# Altium footprint library ArdUno_AADsm5-42b.PcbLib: 27 footprints (part 1 of 2)
Each footprint in its own frame and in the unit in brackets; x right, y up, seen from the top. Pads: shape width x height; smd on the part's side, far side on the other; paste and mask are expansions set on the pad; w line width, h text height; cw(c..) or ccw(c..) is an arc to the next point about the centre after c.
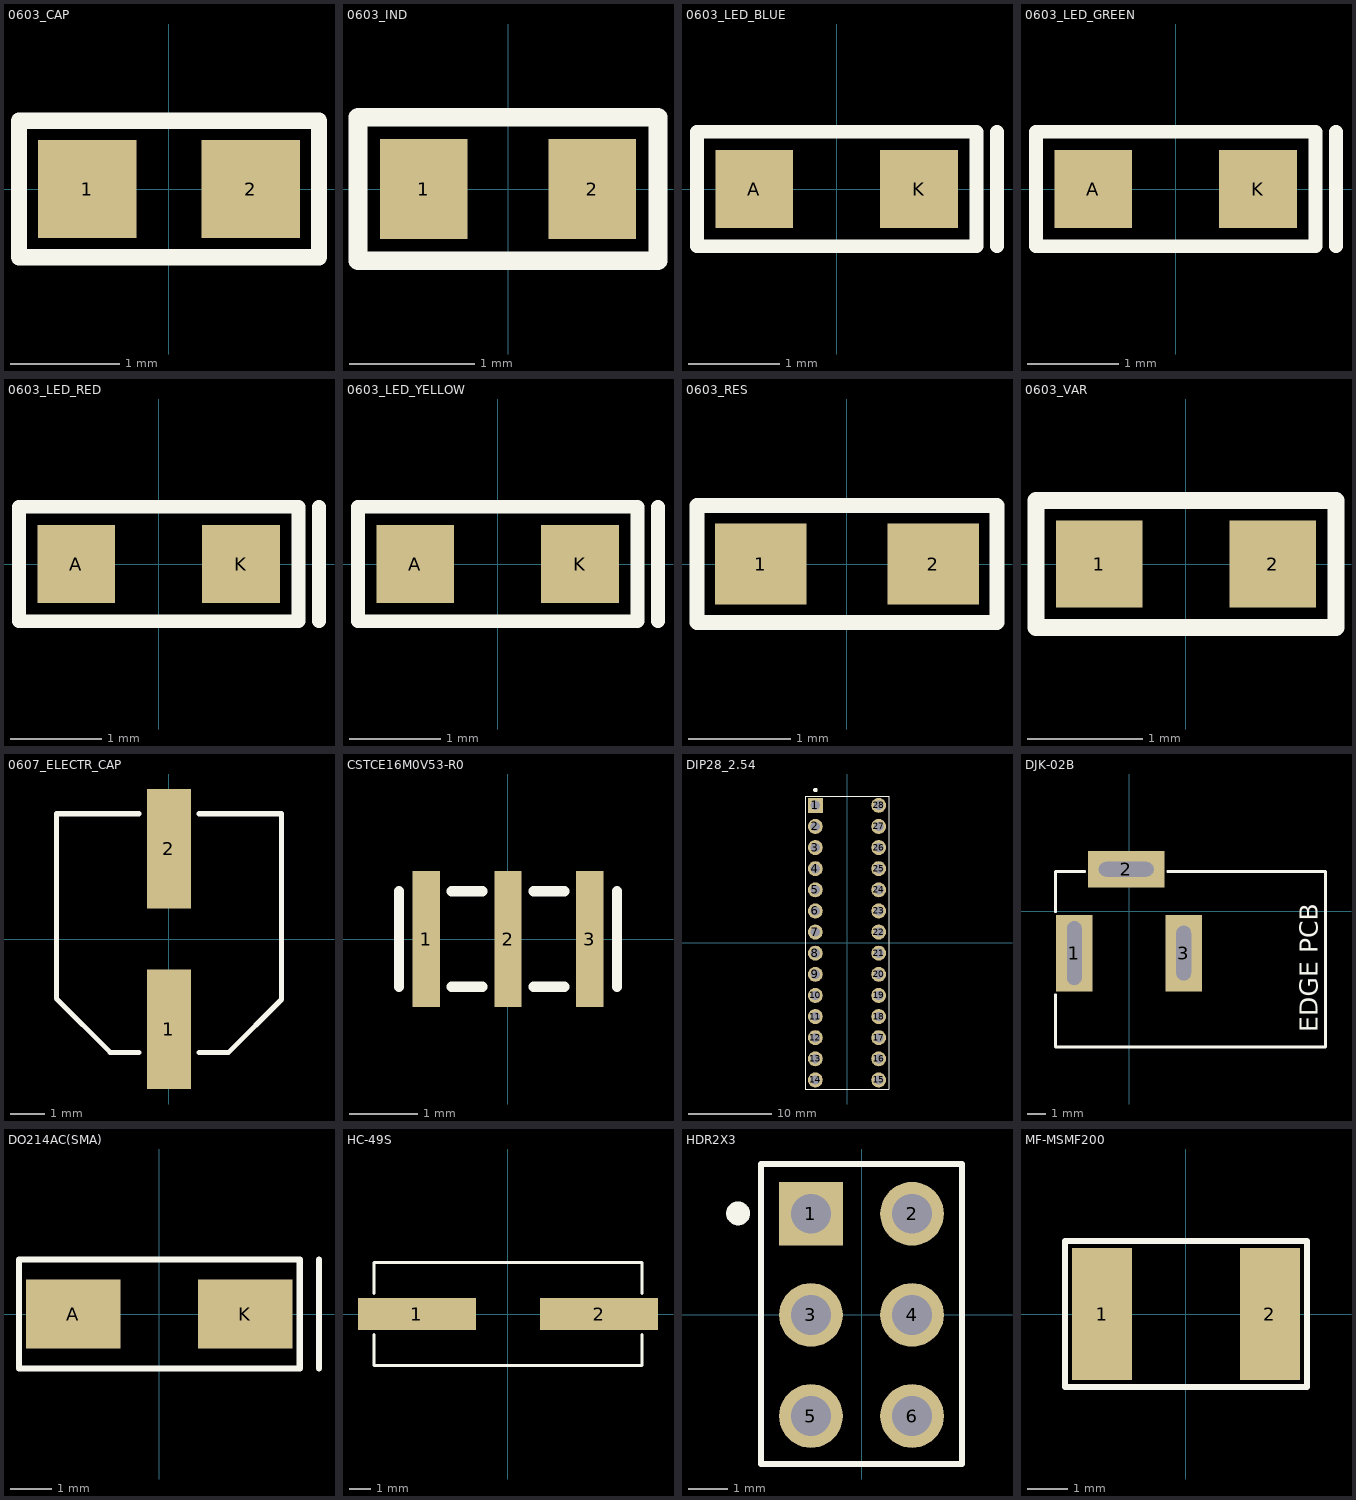
[diagram p0: the footprints below, top view; thin cyan lines are the x and y axes]

## 0603_CAP [mm]
height 0.8
pads (2):
  rect 0.9x0.9 smd: 1(-0.75,0) 2(0.75,0)
Top Overlay:
  lines w0.15: -1.375,-0.625 -1.375,0.625 1.375,0.625 1.375,-0.625 -1.375,-0.625
3D body "0603_CAP.step": height 0.8, standoff 0, extent -0.8,-0.4 0.8,0.4

## 0603_IND [mm]
pads (2):
  rect 0.7x0.8 smd: 1(-0.675,0) 2(0.675,0)
Top Overlay:
  lines w0.15: -1.2,-0.575 -1.2,0.575 1.2,0.575 1.2,-0.575 -1.2,-0.575
3D body "BLM18_0603.step": height 0.8, standoff 0, extent -0.8,-0.4 0.8,0.4

## 0603_LED_BLUE [mm]
height 0.85
pads (2):
  rect 0.85x0.85 smd: A(-0.9,0) K(0.9,0)
Top Overlay:
  lines w0.15: 1.75,-0.625 1.75,0.625 ; -1.525,-0.625 1.525,-0.625 1.525,0.625 -1.525,0.625 -1.525,-0.625
3D body "User Library-LED_0603_B.STEP": height 0.6, standoff 0, extent -0.8,-0.4 0.8,0.4

## 0603_LED_GREEN [mm]
height 0.85
pads (2):
  rect 0.85x0.85 smd: A(-0.9,0) K(0.9,0)
Top Overlay:
  lines w0.15: 1.75,-0.625 1.75,0.625 ; -1.525,-0.625 1.525,-0.625 1.525,0.625 -1.525,0.625 -1.525,-0.625
3D body "User Library-LED_0603_G.STEP": height 0.6, standoff 0, extent -0.8,-0.4 0.8,0.4

## 0603_LED_RED [mm]
height 0.85
pads (2):
  rect 0.85x0.85 smd: A(-0.9,0) K(0.9,0)
Top Overlay:
  lines w0.15: 1.75,-0.625 1.75,0.625 ; -1.525,-0.625 -1.525,0.625 1.525,0.625 1.525,-0.625 -1.525,-0.625
3D body "User Library-LED_0603_R.STEP": height 0.6, standoff 0, extent -0.8,-0.4 0.8,0.4

## 0603_LED_YELLOW [mm]
height 0.85
pads (2):
  rect 0.85x0.85 smd: A(-0.9,0) K(0.9,0)
Top Overlay:
  lines w0.15: 1.75,-0.625 1.75,0.625 ; -1.525,-0.625 1.525,-0.625 1.525,0.625 -1.525,0.625 -1.525,-0.625
3D body "User Library-LED_0603_Y.STEP": height 0.6, standoff 0, extent -0.8,-0.4 0.8,0.4

## 0603_RES [mm]
height 0.55
pads (2):
  rect 0.9x0.8 smd: 1(-0.85,0) 2(0.85,0)
Top Overlay:
  lines w0.15: -1.475,-0.575 1.475,-0.575 1.475,0.575 -1.475,0.575 -1.475,-0.575
3D body "0603_RES.step": height 0.45, standoff 0, extent -0.8,-0.41 0.8,0.41

## 0603_VAR [mm]
height 0.6
pads (2):
  rect 0.75x0.75 smd: 1(-0.75,0) 2(0.75,0)
Top Overlay:
  lines w0.15: -1.3,-0.55 -1.3,0.55 1.3,0.55 1.3,-0.55 -1.3,-0.55
3D body "CG0603MLC-05E.stp": height 0.55, standoff 0, extent -0.8,-0.4 0.8,0.4

## 0607_ELECTR_CAP [mm]
height 5.7
pads (2):
  rect 1.3x3.5 smd: 1(0,-2.65) 2(0,2.65)
Top Overlay:
  lines w0.15: -0.875,-3.325 -1.725,-3.325 -3.3,-1.75 -3.3,3.675 -0.875,3.675 ; 0.875,-3.325 1.75,-3.325 3.3,-1.775 3.3,3.675 0.875,3.675
3D body "0607_electrolitic capacitor.step": height 8.11, standoff 0, extent -3.3,-3.35 3.3,3.65

## CSTCE16M0V53-R0 [mm] "Quartz_CSTCE16M0V53-R0"
height 1
pads (3):
  rect 0.4x2 smd: 1(-1.2,0) 2(0,0) 3(1.2,0)
Top Overlay:
  lines w0.15: -1.6,-0.7 -1.6,0.7 ; -0.825,-0.7 -0.375,-0.7 ; -0.825,0.7 -0.375,0.7 ; 0.375,-0.7 0.825,-0.7 ; 0.375,0.7 0.825,0.7 ; 1.6,-0.7 1.6,0.7
3D body "CSTCE16M0V53-R0.step": height 1.01, standoff -0.11, extent -1.6,-0.65 1.6,0.65

## DIP28_2.54 [mm]
pads (28):
  rect 1.8x1.8 hole 1.1: 1(-3.81,16.51)
  round 1.8 hole 1.1: 2(-3.81,13.97) 3(-3.81,11.43) 4(-3.81,8.89) 5(-3.81,6.35) 6(-3.81,3.81) 7(-3.81,1.27) 8(-3.81,-1.27) 9(-3.81,-3.81) 10(-3.81,-6.35) 11(-3.81,-8.89) 12(-3.81,-11.43) 13(-3.81,-13.97) 14(-3.81,-16.51) 15(3.81,-16.51) 16(3.81,-13.97) 17(3.81,-11.43) 18(3.81,-8.89) 19(3.81,-6.35) 20(3.81,-3.81) 21(3.81,-1.27) 22(3.81,1.27) 23(3.81,3.81) 24(3.81,6.35) 25(3.81,8.89) 26(3.81,11.43) 27(3.81,13.97) 28(3.81,16.51)
Top Overlay:
  circle w0.3: c-3.8,18.35 r0.12
  circle w0.3: c-3.81,16.51 r0.15
  lines w0.15: -5,-17.6 5,-17.6 5,17.6 -5,17.6 -5,-17.6
3D body "dil_socket.stp": height 2.8, standoff -4.57, extent -5.05,-17.75 5.05,17.75
3D body "28 pin dip.step": height 6.65, standoff 0.43, extent -3.937,-18.05 3.937,17.891

## DJK-02B [mm]
pads (3):
  rect 2x4.2 hole 0.8 slot 3.5 at 90 deg: 1(-3,-2.3)
  rect 4.2x2 hole 0.8 slot 3 at 0 deg: 2(-0.15,2.3)
  rect 2x4.2 hole 0.8 slot 3 at 90 deg: 3(3,-2.3)
Top Overlay:
  lines w0.15: -4.025,-4.575 -4.025,-7.45 10.775,-7.45 10.775,2.15 ; -4.025,-0.025 -4.025,2.175 -2.425,2.175 ; 2.125,2.175 10.775,2.175
  text "EDGE PCB" at 10.35,-6.65 h1
3D body "DJK-02B (DS-261A).step": height 11, standoff -3.5, extent -3.75,-6.875 10.65,2.425

## DO214AC(SMA) [mm] "DiodeSch_SS14-E3/61T"
pads (2):
  rect 2.3x1.68 smd: A(-2.09,0) K(2.09,0)
Top Overlay:
  lines w0.15: 3.885,-1.325 3.885,1.325 ; -3.415,-1.325 3.415,-1.325 3.415,1.325 -3.415,1.325 -3.415,-1.325
3D body "DO-214AC(SMA).step": height 2.26, standoff -0.03, extent -2.758,-1.397 2.728,1.397

## HC-49S [mm]
height 4.2
pads (2):
  rect 5.5x1.5 smd: 1(-4.25,0) 2(4.25,0)
Top Overlay:
  lines w0.15: -6.25,-0.95 -6.25,-2.4 6.25,-2.4 6.25,-0.95 ; -6.25,0.95 -6.25,2.4 6.25,2.4 6.25,0.95
3D body "HC49-S.step": height 4.3, standoff 0, extent -6.4,-2.415 6.4,2.415

## HDR2X3 [mm]
pads (6):
  rect 1.6x1.6 hole 1: 1(-1.27,2.54)
  round 1.6 hole 1: 2(1.27,2.54) 3(-1.27,0) 4(1.27,0) 5(-1.27,-2.54) 6(1.27,-2.54)
Top Overlay:
  circle w0.3: c-3.1,2.55 r0.15
  lines w0.15: -2.52,-3.745 -2.52,3.79 2.52,3.79 2.52,-3.745 -2.52,-3.745
3D body "PLD-6.step": height 8.5, standoff -3, extent -2.495,-3.84 2.505,3.78

## MF-MSMF200 [mm]
height 1.1
pads (2):
  rect 1.5x3.3 smd: 1(-2.1,0) 2(2.1,0)
Top Overlay:
  lines w0.15: -3.025,-1.825 3.025,-1.825 3.025,1.825 -3.025,1.825 -3.025,-1.825
3D body "MF-MSMF200.stp": height 0.85, standoff 0, extent -2.275,-1.62 2.275,1.62